# Altium footprint library LQFP.PcbLib: 2 footprints
Each footprint in its own frame and in the unit in brackets; x right, y up, seen from the top. Pads: shape width x height; smd on the part's side, far side on the other; paste and mask are expansions set on the pad; w line width, h text height; cw(c..) or ccw(c..) is an arc to the next point about the centre after c.
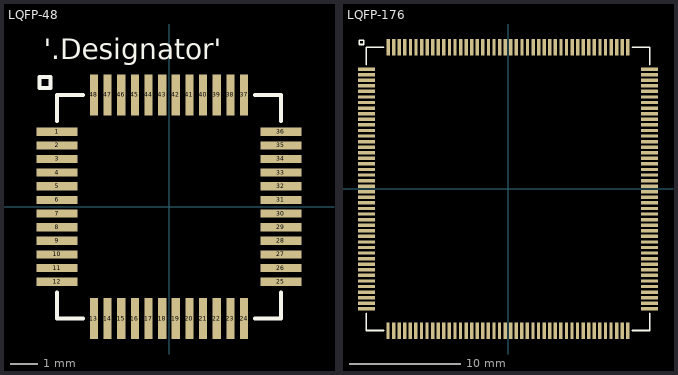
[diagram p0: the footprints below, top view; thin cyan lines are the x and y axes]

## LQFP-48 [mm]
pads (48):
  rect 1.5x0.3 smd: 1(-4.1,2.75) 2(-4.1,2.25) 3(-4.1,1.75) 4(-4.1,1.25) 5(-4.1,0.75) 6(-4.1,0.25) 7(-4.1,-0.25) 8(-4.1,-0.75) 9(-4.1,-1.25) 10(-4.1,-1.75) 11(-4.1,-2.25) 12(-4.1,-2.75) 25(4.1,-2.75) 26(4.1,-2.25) 27(4.1,-1.75) 28(4.1,-1.25) 29(4.1,-0.75) 30(4.1,-0.25) 31(4.1,0.25) 32(4.1,0.75) 33(4.1,1.25) 34(4.1,1.75) 35(4.1,2.25) 36(4.1,2.75)
  rect 0.3x1.5 smd: 13(-2.75,-4.1) 14(-2.25,-4.1) 15(-1.75,-4.1) 16(-1.25,-4.1) 17(-0.75,-4.1) 18(-0.25,-4.1) 19(0.25,-4.1) 20(0.75,-4.1) 21(1.25,-4.1) 22(1.75,-4.1) 23(2.25,-4.1) 24(2.75,-4.1) 37(2.75,4.1) 38(2.25,4.1) 39(1.75,4.1) 40(1.25,4.1) 41(0.75,4.1) 42(0.25,4.1) 43(-0.25,4.1) 44(-0.75,4.1) 45(-1.25,4.1) 46(-1.75,4.1) 47(-2.25,4.1) 48(-2.75,4.1)
Top Overlay:
  lines w0.15: -4.1,-3.15 -4.1,-4.1 -3.15,-4.1 ; -4.1,3.15 -4.1,4.1 -3.15,4.1 ; 3.15,-4.1 4.1,-4.1 4.1,-3.15 ; 3.15,4.1 4.1,4.1 4.1,3.15 ; -4.75,4.35 -4.35,4.35 -4.35,4.75 -4.75,4.75 -4.75,4.35
  text "'.Designator'" at -4.6,5.4 h0.75

## LQFP-176 [mm]
pads (176):
  rect 1.5x0.3 smd: 1(-12.7,10.75) 1(12.7,-10.75) 1(12.7,-10.25) 1(12.7,-9.75) 1(12.7,-9.25) 1(12.7,-8.75) 1(12.7,-8.25) 1(12.7,-7.75) 1(12.7,-7.25) 1(12.7,-6.75) 1(12.7,-6.25) 1(12.7,-5.75) 1(12.7,-5.25) 1(12.7,-4.75) 1(12.7,-4.25) 1(12.7,-3.75) 1(12.7,-3.25) 1(12.7,-2.75) 1(12.7,-2.25) 1(12.7,-1.75) 1(12.7,-1.25) 1(12.7,-0.75) 1(12.7,-0.25) 1(12.7,0.25) 1(12.7,0.75) 1(12.7,1.25) 1(12.7,1.75) 1(12.7,2.25) 1(12.7,2.75) 1(12.7,3.25) 1(12.7,3.75) 1(12.7,4.25) 1(12.7,4.75) 1(12.7,5.25) 1(12.7,5.75) 1(12.7,6.25) 1(12.7,6.75) 1(12.7,7.25) 1(12.7,7.75) 1(12.7,8.25) 1(12.7,8.75) 1(12.7,9.25) 1(12.7,9.75) 1(12.7,10.25) 1(12.7,10.75) 2(-12.7,10.25) 3(-12.7,9.75) 4(-12.7,9.25) 5(-12.7,8.75) 6(-12.7,8.25) 7(-12.7,7.75) 8(-12.7,7.25) 9(-12.7,6.75) 10(-12.7,6.25) 11(-12.7,5.75) 12(-12.7,5.25) 13(-12.7,4.75) 14(-12.7,4.25) 15(-12.7,3.75) 16(-12.7,3.25) 17(-12.7,2.75) 18(-12.7,2.25) 19(-12.7,1.75) 20(-12.7,1.25) 21(-12.7,0.75) 22(-12.7,0.25) 23(-12.7,-0.25) 24(-12.7,-0.75) 25(-12.7,-1.25) 26(-12.7,-1.75) 27(-12.7,-2.25) 28(-12.7,-2.75) 29(-12.7,-3.25) 30(-12.7,-3.75) 31(-12.7,-4.25) 32(-12.7,-4.75) 33(-12.7,-5.25) 34(-12.7,-5.75) 35(-12.7,-6.25) 36(-12.7,-6.75) 37(-12.7,-7.25) 38(-12.7,-7.75) 39(-12.7,-8.25) 40(-12.7,-8.75) 41(-12.7,-9.25) 42(-12.7,-9.75) 43(-12.7,-10.25) 44(-12.7,-10.75)
  rect 0.3x1.5 smd: 1(-10.75,12.7) 1(-10.25,12.7) 1(-9.75,12.7) 1(-9.25,12.7) 1(-8.75,12.7) 1(-8.25,12.7) 1(-7.75,12.7) 1(-7.25,12.7) 1(-6.75,12.7) 1(-6.25,12.7) 1(-5.75,12.7) 1(-5.25,12.7) 1(-4.75,12.7) 1(-4.25,12.7) 1(-3.75,12.7) 1(-3.25,12.7) 1(-2.75,12.7) 1(-2.25,12.7) 1(-1.75,12.7) 1(-1.25,12.7) 1(-0.75,12.7) 1(-0.25,12.7) 1(0.25,12.7) 1(0.75,12.7) 1(1.25,12.7) 1(1.75,12.7) 1(2.25,12.7) 1(2.75,12.7) 1(3.25,12.7) 1(3.75,12.7) 1(4.24,-12.706) 1(4.25,12.7) 1(4.74,-12.706) 1(4.75,12.7) 1(5.24,-12.706) 1(5.25,12.7) 1(5.74,-12.706) 1(5.75,12.7) 1(6.24,-12.706) 1(6.25,12.7) 1(6.74,-12.706) 1(6.75,12.7) 1(7.24,-12.706) 1(7.25,12.7) 1(7.74,-12.706) 1(7.75,12.7) 1(8.24,-12.706) 1(8.25,12.7) 1(8.74,-12.706) 1(8.75,12.7) 1(9.24,-12.706) 1(9.25,12.7) 1(9.74,-12.706) 1(9.75,12.7) 1(10.24,-12.706) 1(10.25,12.7) 1(10.74,-12.706) 1(10.75,12.7) 6(1.74,-12.706) 6(2.24,-12.706) 6(2.74,-12.706) 6(3.24,-12.706) 6(3.74,-12.706) 45(-10.76,-12.706) 46(-10.26,-12.706) 47(-9.76,-12.706) 48(-9.26,-12.706) 49(-8.76,-12.706) 50(-8.26,-12.706) 51(-7.76,-12.706) 52(-7.26,-12.706) 53(-6.76,-12.706) 54(-6.26,-12.706) 55(-5.76,-12.706) 56(-5.26,-12.706) 57(-4.76,-12.706) 58(-4.26,-12.706) 59(-3.76,-12.706) 60(-3.26,-12.706) 61(-2.76,-12.706) 62(-2.26,-12.706) 63(-1.76,-12.706) 64(-1.26,-12.706) 65(-0.76,-12.706) 66(-0.26,-12.706) 67(0.24,-12.706) 68(0.74,-12.706) 69(1.24,-12.706)
Top Overlay:
  lines w0.15: -12.7,-11.15 -12.7,-12.7 -11.15,-12.7 ; -12.7,11.15 -12.7,12.7 -11.15,12.7 ; 11.15,-12.7 12.7,-12.7 12.7,-11.15 ; 11.15,12.7 12.7,12.7 12.7,11.15 ; -13.35,12.95 -12.95,12.95 -12.95,13.35 -13.35,13.35 -13.35,12.95